# EAGLE library part WURTH-74980104400 (library borkedlabs-connectors)
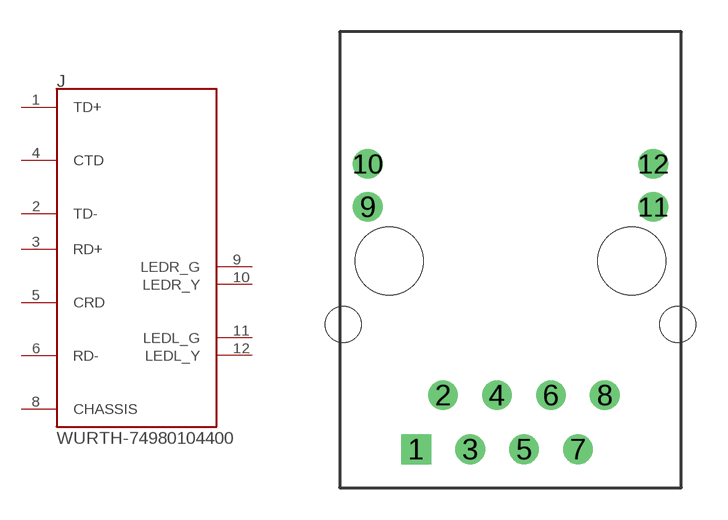
[diagram p6: symbol with the pads of WURTH-74980104400; footprint WURTH-74980104400]

Designator prefix J

## WURTH-74980104400 (MPN: 74980104400)  [WURTH-74980104400]
1  TD+
2  TD-
3  RD+
4  CTD
5  CRD
6  RD-
8  CHASSIS
9  LEDR_G
10  LEDR_Y
11  LEDL_G
12  LEDL_Y

## Footprint WURTH-74980104400 (pad centres in mm)
WE-RJ45 LAN Transformer Through Hole Reflow
drill 0.89 square: 1 -4.44,-8.89
drill 0.89: 2 -3.18,-6.34; 3 -1.9,-8.89; 4 -0.64,-6.34; 5 0.64,-8.89; 6 1.9,-6.34; 7 3.18,-8.89; 8 4.44,-6.34; 9 -6.725,2.54; 10 -6.725,4.57; 11 6.725,2.54; 12 6.725,4.57
hole 3.2 at -5.715,0
hole 3.2 at 5.715,0
hole 1.7 at -7.875,-3
hole 1.7 at 7.875,-3